# EAGLE library part 687108144821 (library Wuerth_Elektronik_eiCan_03_ZIF_Connectors_Flat_Flexible_Cable)
WR-FPC 0.5mm SMT ZIF Horizontal Bottom Contact Low Profil 1.2mm Height, 8 Pins
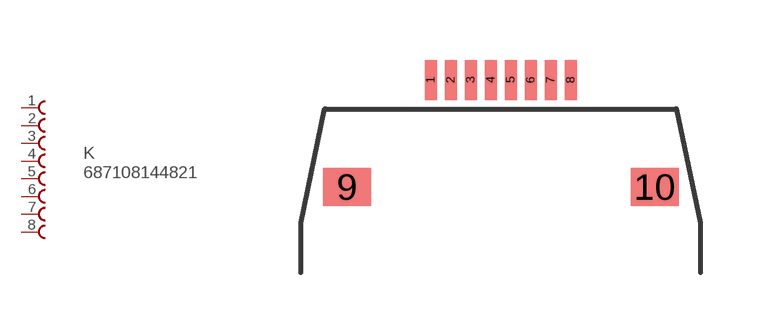
[diagram p3: symbol with the pads of 687108144821; footprint 687108144821]

Designator prefix K

## 687108144821  [687108144821]
1  1  pas
2  2  pas
3  3  pas
4  4  pas
5  5  pas
6  6  pas
7  7  pas
8  8  pas

## Footprint 687108144821 (pad centres in mm)
WR-FPC 0.5mm SMT ZIF Horizontal Bottom Contact Low Profil 1.2mm Height, 8 Pins
smd 0.3 x 1: 1 -1.75,4.825; 2 -1.25,4.825; 3 -0.75,4.825; 4 -0.25,4.825; 5 0.25,4.825; 6 0.75,4.825; 7 1.25,4.825; 8 1.75,4.825
smd 1.2 x 0.95: 9 -3.85,2.15; 10 3.85,2.15